# Altium footprint library OSCILL_16MHz.PcbLib: 1 footprints
Each footprint in its own frame and in the unit in brackets; x right, y up, seen from the top. Pads: shape width x height; smd on the part's side, far side on the other; paste and mask are expansions set on the pad; w line width, h text height; cw(c..) or ccw(c..) is an arc to the next point about the centre after c.
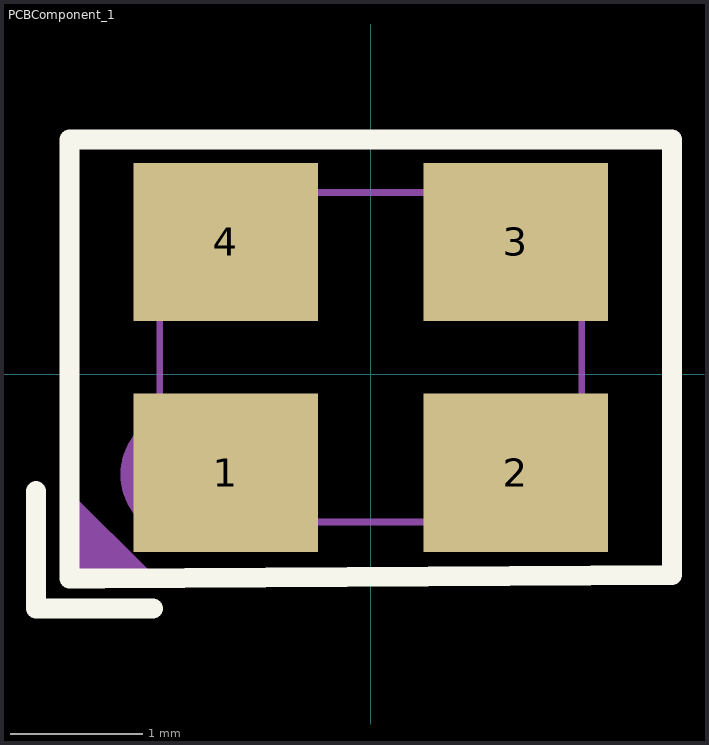
[diagram p0: the footprint, top view; thin cyan lines are the x and y axes]

## PCBComponent_1 [mm] "CRYSTAL-SMD_4P-L3.2-W2.5-BL-1"
pads (4):
  rect 1.4x1.2 smd paste+0 mask+0.051: 1(-1.1,-0.748) 2(1.1,-0.748) 3(1.1,1.002) 4(-1.1,1.002)
Top Overlay:
  lines w0.152: -2.54,-0.889 -2.54,-1.651 -2.54,-1.778 -1.651,-1.778 ; -2.286,-1.552 -2.286,1.778 2.286,1.778 2.286,0.127 2.286,-1.524 -2.029,-1.552 -2.286,-1.552
Mechanical 6:
  circle w0.5: c-1.397,-0.762 r0.25
  region: -2.286,-0.889 -2.286,-1.524 -1.651,-1.524
Mechanical 15:
  region: 0.45,1.277 1.5,1.277 1.5,0.477 0.45,0.477
  region: -1.5,1.277 -0.45,1.277 -0.45,0.477 -1.5,0.477
  region: -1.5,-0.223 -0.45,-0.223 -0.45,-1.023 -1.5,-1.023
  region: 0.45,-0.223 1.5,-0.223 1.5,-1.023 0.45,-1.023
  region: -1.54,-1.123 -1.541,-1.099 -1.576,-1.066 -1.624,-1.066 -1.659,-1.099 -1.66,-1.123 -1.659,-1.147 -1.624,-1.18 -1.576,-1.18 -1.541,-1.147
  lines w0.051: -1.6,-1.123 1.6,-1.123 1.6,1.377 -1.6,1.377 -1.6,-1.123
3D body "TSX-3225 16.0000MF18X-AC3--3DModel-STEP-56544.STEP": height 0.61, standoff 0.01, extent -1.6,-1.123 1.6,1.377